# EAGLE library part RF-LINK_RX (library RFM)
RF Link receivers- WRL-8947, 8948, 8949, 8950
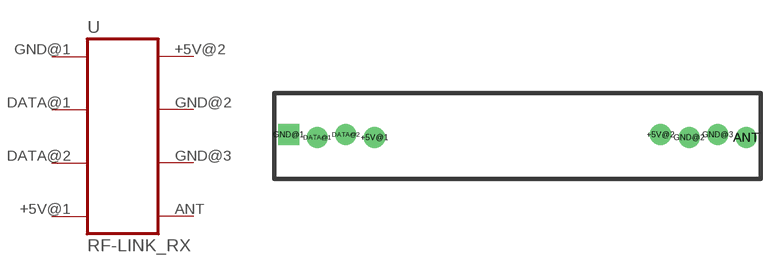
[diagram p0: symbol with the pads of RF-LINK_RX; footprint RF-LINK_RX]

Designator prefix -

## RF-LINK_RX  [RF-LINK_RX]
+5V@1  VCC1  pwr
+5V@2  VCC2  pwr
ANT  ANT
DATA@1  DATA_OUT  out
DATA@2  LINEAR_OUT  out
GND@1  GND1  pwr
GND@2  GND2  pwr
GND@3  GND3  pwr

## Footprint RF-LINK_RX (pad centres in mm)
RF-LINK receivers WRL-8947, 8948, 8949, 8950
drill 1.016 pad 1.88: +5V@1 7.62,-0.127; +5V@2 33.02,0.127; ANT 40.64,-0.127; DATA@1 2.54,-0.127; DATA@2 5.08,0.127; GND@2 35.56,-0.127; GND@3 38.1,0.127
drill 1.016 pad 1.88 square: GND@1 0,0.127